# Altium schematic symbol library PMEG3030BEP,115.SchLib: 1 symbol
Pins are listed as number, name and electrical type; pins without a type are passive.

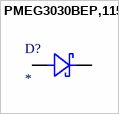
[diagram p0: symbol PMEG3030BEP,115]

## PMEG3030BEP,115
designator D?
MF: {'manufacturer': u'Nexperia USA'}; MP: PMEG3030BEP,115; Value: *; Availability: Unavailable; Package: None; Price: None
footprint CFP5_SOD128_NEX
pins: 1 11, 2 12